# Altium schematic symbol library 33nF Kapasitör.SchLib: 1 symbol
Pins are listed as number, name and electrical type; pins without a type are passive.

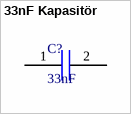
[diagram p0: symbol 33nF Kapasitör]

## 33nF Kapasitör
designator C?, comment 33nF
footprint 33nF Kapasitör
pins: 1, 2